# Altium schematic symbol library PEC11R-4215F-S0024.SchLib: 1 symbol
Pins are listed as number, name and electrical type; pins without a type are passive.

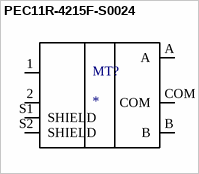
[diagram p0: symbol PEC11R-4215F-S0024]

## PEC11R-4215F-S0024
designator MT?
Incremental Encoder, 12 Mm, Contact Rating 10 Ma - 5 Vdc; MP: PEC11R-4215F-S0024; Package: None; Availability: Unavailable; Value: *; Price: None
footprint XDCR_PEC11R-4215F-S0024
pins: 1, 2, A, B, COM, S1 SHIELD, S2 SHIELD